# Altium footprint library ART-Pi_STM32H750_COPY.PcbLib: 50 footprints (part 4 of 4)
Each footprint in its own frame and in the unit in brackets; x right, y up, seen from the top. Pads: shape width x height; smd on the part's side, far side on the other; paste and mask are expansions set on the pad; w line width, h text height; cw(c..) or ccw(c..) is an arc to the next point about the centre after c.
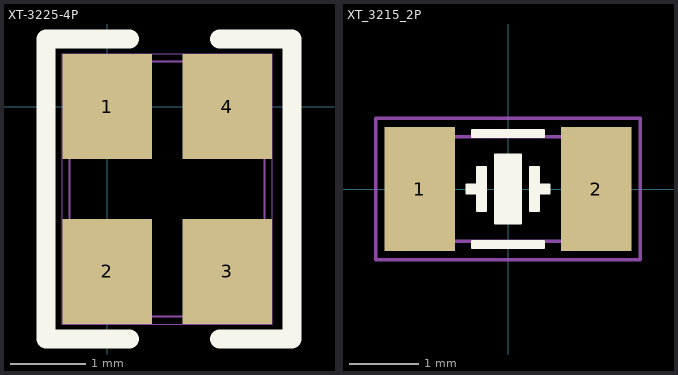
[diagram p3: the footprints below, top view; thin cyan lines are the x and y axes]

## XT-3225-4P [mil] "XTAL-SMT-3.2*2.5mm"
height 2
pads (4):
  rect 47x55 smd paste-2 mask+2: 1(0,0) 2(0,-86.61) 3(62.99,-86.61) 4(62.99,0)
Top Overlay:
  lines w10: 11.81,-122.05 -32.05,-122.05 -32.05,35.43 11.81,35.43 ; 59.06,-122.05 96.93,-122.05 96.93,35.43 59.06,35.43
Mechanical 1:
  lines w1: -19.69,-110.24 82.68,-110.24 82.68,23.62 -19.69,23.62 -19.69,-110.24
Mechanical 2:
  lines w0.1: -23.62,-114.17 86.61,-114.17 86.61,27.56 -23.62,27.56 -23.62,-114.17
3D body "TSX3225-4P.STEP": height 23.62, standoff 0, extent -18,-105.98 80.42,20

## XT_3215_2P [mil]
pads (4):
  round 0 smd: 1(-50,0) 2(50,0)
  rect 40x70 smd: 1(-50,0) 2(50,0)
Top Overlay:
  region: 20.5,-33.5 -20.5,-33.5 -20.5,-29.5 20.5,-29.5
  region: 12.5,12.5 17.5,12.5 17.5,2.5 23.5,2.5 23.5,-2.5 17.5,-2.5 17.5,-12.5 12.5,-12.5
  region: -12.5,-12.5 -17.5,-12.5 -17.5,-2.5 -23.5,-2.5 -23.5,2.5 -17.5,2.5 -17.5,12.5 -12.5,12.5
  region: -7.5,19.5 7.5,19.5 7.5,-19.5 -7.5,-19.5
  region: -20.5,33.5 20.5,33.5 20.5,29.5 -20.5,29.5
  lines w1: -23.5,-2.5 -23.5,2.5 -17.5,2.5 -17.5,12.5 -12.5,12.5 -12.5,-12.5 -17.5,-12.5 -17.5,-2.5 -23.5,-2.5 ; -20.5,-33.5 20.5,-33.5 20.5,-29.5 -20.5,-29.5 -20.5,-33.5 ; -20.5,29.5 -20.5,33.5 20.5,33.5 20.5,29.5 -20.5,29.5 ; -7.5,-19.5 7.5,-19.5 7.5,19.5 -7.5,19.5 -7.5,-19.5 ; 12.5,-12.5 17.5,-12.5 17.5,-2.5 23.5,-2.5 23.5,2.5 17.5,2.5 17.5,12.5 12.5,12.5 12.5,-12.5
Mechanical 3:
  lines w2: -75,-40 75,-40 75,40 -75,40 -75,-40 ; -63,-29.51 -63,29.53 62.99,29.53 62.99,-29.51 -63,-29.51